# Altium footprint library Connector_FFC-FPC.PcbLib: 184 footprints (part 1 of 12)
Each footprint in its own frame and in the unit in brackets; x right, y up, seen from the top. Pads: shape width x height; smd on the part's side, far side on the other; paste and mask are expansions set on the pad; w line width, h text height; cw(c..) or ccw(c..) is an arc to the next point about the centre after c.
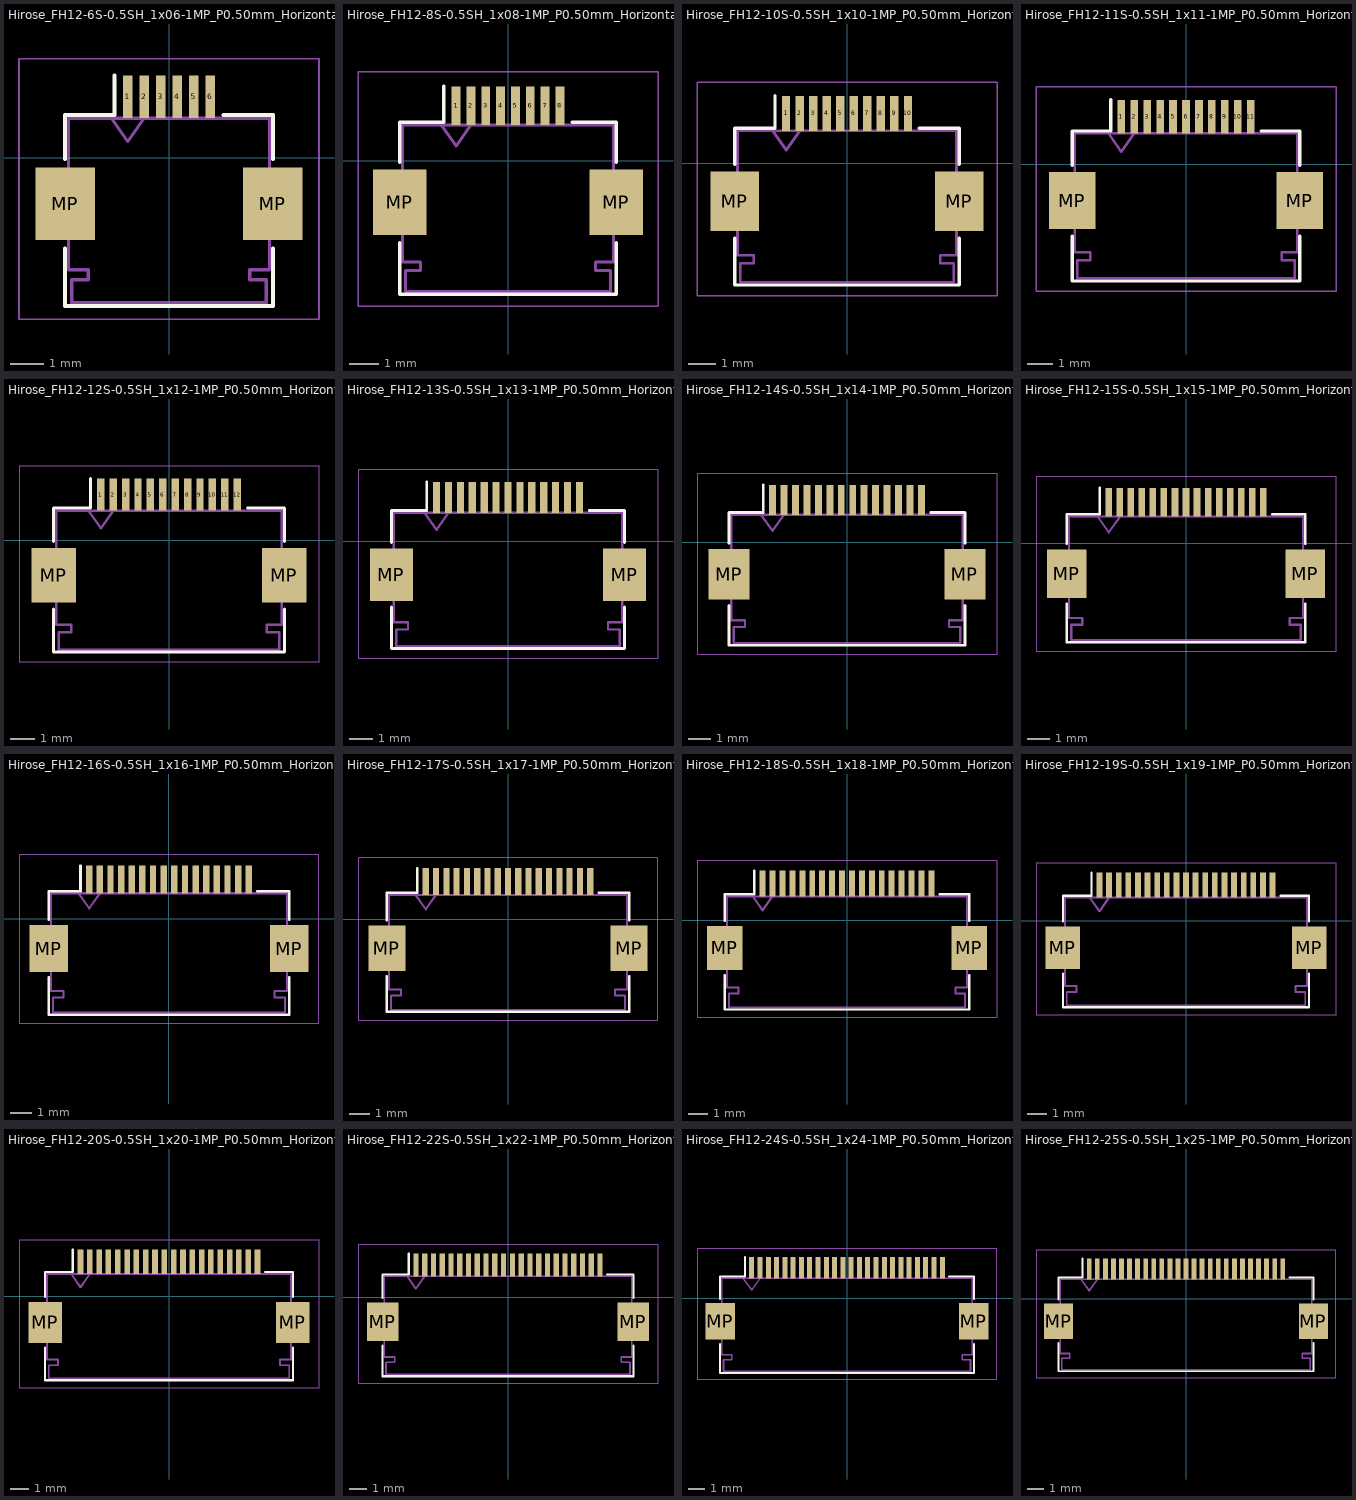
[diagram p0: the footprints below, top view; thin cyan lines are the x and y axes]

## Hirose_FH12-6S-0.5SH_1x06-1MP_P0.50mm_Horizontal [mm]
pads (8):
  rect 0.3x1.3 smd: 1(-1.25,1.85) 2(-0.75,1.85) 3(-0.25,1.85) 4(0.25,1.85) 5(0.75,1.85) 6(1.25,1.85)
  rect 1.8x2.2 smd: MP(-3.15,-1.4) MP(3.15,-1.4)
F.SilkS:
  lines w0.12: -3.15,-2.76 -3.15,-4.5 3.15,-4.5 3.15,-2.76 ; -3.15,-0.04 -3.15,1.3 -1.66,1.3 -1.66,2.5 ; 1.66,1.3 3.15,1.3 3.15,-0.04
F.CrtYd:
  lines w0.05: -4.55,-4.9 -4.55,3 4.55,3 4.55,-4.9 -4.55,-4.9
F.Fab:
  lines w0.1: -1.75,1.2 -1.25,0.493 -0.75,1.2 ; -3.05,-3.4 -2.45,-3.4 -2.45,-3.7 -2.95,-3.7 -2.95,-4.4 0,-4.4 2.95,-4.4 2.95,-3.7 2.45,-3.7 2.45,-3.4 3.05,-3.4 3.05,1.2 0,1.2 -3.05,1.2 -3.05,-3.4
  text "'.Designator'" at -4.047,-4.54 h1

## Hirose_FH12-8S-0.5SH_1x08-1MP_P0.50mm_Horizontal [mm]
pads (10):
  rect 0.3x1.3 smd: 1(-1.75,1.85) 2(-1.25,1.85) 3(-0.75,1.85) 4(-0.25,1.85) 5(0.25,1.85) 6(0.75,1.85) 7(1.25,1.85) 8(1.75,1.85)
  rect 1.8x2.2 smd: MP(-3.65,-1.4) MP(3.65,-1.4)
F.SilkS:
  lines w0.12: -3.65,-2.76 -3.65,-4.5 3.65,-4.5 3.65,-2.76 ; -3.65,-0.04 -3.65,1.3 -2.16,1.3 -2.16,2.5 ; 2.16,1.3 3.65,1.3 3.65,-0.04
F.CrtYd:
  lines w0.05: -5.05,-4.9 -5.05,3 5.05,3 5.05,-4.9 -5.05,-4.9
F.Fab:
  lines w0.1: -2.25,1.2 -1.75,0.493 -1.25,1.2 ; -3.55,-3.4 -2.95,-3.4 -2.95,-3.7 -3.45,-3.7 -3.45,-4.4 0,-4.4 3.45,-4.4 3.45,-3.7 2.95,-3.7 2.95,-3.4 3.55,-3.4 3.55,1.2 0,1.2 -3.55,1.2 -3.55,-3.4
  text "'.Designator'" at -4.047,-4.54 h1

## Hirose_FH12-10S-0.5SH_1x10-1MP_P0.50mm_Horizontal [mm]
pads (12):
  rect 0.3x1.3 smd: 1(-2.25,1.85) 2(-1.75,1.85) 3(-1.25,1.85) 4(-0.75,1.85) 5(-0.25,1.85) 6(0.25,1.85) 7(0.75,1.85) 8(1.25,1.85) 9(1.75,1.85) 10(2.25,1.85)
  rect 1.8x2.2 smd: MP(-4.15,-1.4) MP(4.15,-1.4)
F.SilkS:
  lines w0.12: -4.15,-2.76 -4.15,-4.5 4.15,-4.5 4.15,-2.76 ; -4.15,-0.04 -4.15,1.3 -2.66,1.3 -2.66,2.5 ; 2.66,1.3 4.15,1.3 4.15,-0.04
F.CrtYd:
  lines w0.05: -5.55,-4.9 -5.55,3 5.55,3 5.55,-4.9 -5.55,-4.9
F.Fab:
  lines w0.1: -2.75,1.2 -2.25,0.493 -1.75,1.2 ; -4.05,-3.4 -3.45,-3.4 -3.45,-3.7 -3.95,-3.7 -3.95,-4.4 0,-4.4 3.95,-4.4 3.95,-3.7 3.45,-3.7 3.45,-3.4 4.05,-3.4 4.05,1.2 0,1.2 -4.05,1.2 -4.05,-3.4
  text "'.Designator'" at -4.047,-4.54 h1

## Hirose_FH12-11S-0.5SH_1x11-1MP_P0.50mm_Horizontal [mm]
pads (13):
  rect 0.3x1.3 smd: 1(-2.5,1.85) 2(-2,1.85) 3(-1.5,1.85) 4(-1,1.85) 5(-0.5,1.85) 6(0,1.85) 7(0.5,1.85) 8(1,1.85) 9(1.5,1.85) 10(2,1.85) 11(2.5,1.85)
  rect 1.8x2.2 smd: MP(-4.4,-1.4) MP(4.4,-1.4)
F.SilkS:
  lines w0.12: -4.4,-2.76 -4.4,-4.5 4.4,-4.5 4.4,-2.76 ; -4.4,-0.04 -4.4,1.3 -2.91,1.3 -2.91,2.5 ; 2.91,1.3 4.4,1.3 4.4,-0.04
F.CrtYd:
  lines w0.05: -5.8,-4.9 5.8,-4.9 5.8,3 -5.8,3 -5.8,-4.9
F.Fab:
  lines w0.1: -3,1.2 -2.5,0.493 -2,1.2 ; -4.3,-3.4 -4.3,1.2 0,1.2 4.3,1.2 4.3,-3.4 3.7,-3.4 3.7,-3.7 4.2,-3.7 4.2,-4.4 0,-4.4 -4.2,-4.4 -4.2,-3.7 -3.7,-3.7 -3.7,-3.4 -4.3,-3.4
  text "'.Designator'" at -4.047,-4.54 h1

## Hirose_FH12-12S-0.5SH_1x12-1MP_P0.50mm_Horizontal [mm]
pads (14):
  rect 0.3x1.3 smd: 1(-2.75,1.85) 2(-2.25,1.85) 3(-1.75,1.85) 4(-1.25,1.85) 5(-0.75,1.85) 6(-0.25,1.85) 7(0.25,1.85) 8(0.75,1.85) 9(1.25,1.85) 10(1.75,1.85) 11(2.25,1.85) 12(2.75,1.85)
  rect 1.8x2.2 smd: MP(-4.65,-1.4) MP(4.65,-1.4)
F.SilkS:
  lines w0.12: -4.65,-2.76 -4.65,-4.5 4.65,-4.5 4.65,-2.76 ; -4.65,-0.04 -4.65,1.3 -3.16,1.3 -3.16,2.5 ; 3.16,1.3 4.65,1.3 4.65,-0.04
F.CrtYd:
  lines w0.05: -6.05,-4.9 6.05,-4.9 6.05,3 -6.05,3 -6.05,-4.9
F.Fab:
  lines w0.1: -3.25,1.2 -2.75,0.493 -2.25,1.2 ; -4.55,-3.4 -3.95,-3.4 -3.95,-3.7 -4.45,-3.7 -4.45,-4.4 0,-4.4 4.45,-4.4 4.45,-3.7 3.95,-3.7 3.95,-3.4 4.55,-3.4 4.55,1.2 0,1.2 -4.55,1.2 -4.55,-3.4
  text "'.Designator'" at -4.047,-4.54 h1

## Hirose_FH12-13S-0.5SH_1x13-1MP_P0.50mm_Horizontal [mm]
pads (15):
  rect 0.3x1.3 smd: 1(-3,1.85) 2(-2.5,1.85) 3(-2,1.85) 4(-1.5,1.85) 5(-1,1.85) 6(-0.5,1.85) 7(0,1.85) 8(0.5,1.85) 9(1,1.85) 10(1.5,1.85) 11(2,1.85) 12(2.5,1.85) 13(3,1.85)
  rect 1.8x2.2 smd: MP(-4.9,-1.4) MP(4.9,-1.4)
F.SilkS:
  lines w0.12: -4.9,-2.76 -4.9,-4.5 4.9,-4.5 4.9,-2.76 ; -4.9,-0.04 -4.9,1.3 -3.41,1.3 -3.41,2.5 ; 3.41,1.3 4.9,1.3 4.9,-0.04
F.CrtYd:
  lines w0.05: -6.3,-4.9 6.3,-4.9 6.3,3 -6.3,3 -6.3,-4.9
F.Fab:
  lines w0.1: -3.5,1.2 -3,0.493 -2.5,1.2 ; -4.8,-3.4 -4.8,1.2 0,1.2 4.8,1.2 4.8,-3.4 4.2,-3.4 4.2,-3.7 4.7,-3.7 4.7,-4.4 0,-4.4 -4.7,-4.4 -4.7,-3.7 -4.2,-3.7 -4.2,-3.4 -4.8,-3.4
  text "'.Designator'" at -4.047,-4.54 h1

## Hirose_FH12-14S-0.5SH_1x14-1MP_P0.50mm_Horizontal [mm]
pads (16):
  rect 0.3x1.3 smd: 1(-3.25,1.85) 2(-2.75,1.85) 3(-2.25,1.85) 4(-1.75,1.85) 5(-1.25,1.85) 6(-0.75,1.85) 7(-0.25,1.85) 8(0.25,1.85) 9(0.75,1.85) 10(1.25,1.85) 11(1.75,1.85) 12(2.25,1.85) 13(2.75,1.85) 14(3.25,1.85)
  rect 1.8x2.2 smd: MP(-5.15,-1.4) MP(5.15,-1.4)
F.SilkS:
  lines w0.12: -5.15,-2.76 -5.15,-4.5 5.15,-4.5 5.15,-2.76 ; -5.15,-0.04 -5.15,1.3 -3.66,1.3 -3.66,2.5 ; 3.66,1.3 5.15,1.3 5.15,-0.04
F.CrtYd:
  lines w0.05: -6.55,-4.9 -6.55,3 6.55,3 6.55,-4.9 -6.55,-4.9
F.Fab:
  lines w0.1: -3.75,1.2 -3.25,0.493 -2.75,1.2 ; -5.05,-3.4 -5.05,1.2 0,1.2 5.05,1.2 5.05,-3.4 4.45,-3.4 4.45,-3.7 4.95,-3.7 4.95,-4.4 0,-4.4 -4.95,-4.4 -4.95,-3.7 -4.45,-3.7 -4.45,-3.4 -5.05,-3.4
  text "'.Designator'" at -4.047,-4.54 h1

## Hirose_FH12-15S-0.5SH_1x15-1MP_P0.50mm_Horizontal [mm]
pads (17):
  rect 0.3x1.3 smd: 1(-3.5,1.85) 2(-3,1.85) 3(-2.5,1.85) 4(-2,1.85) 5(-1.5,1.85) 6(-1,1.85) 7(-0.5,1.85) 8(0,1.85) 9(0.5,1.85) 10(1,1.85) 11(1.5,1.85) 12(2,1.85) 13(2.5,1.85) 14(3,1.85) 15(3.5,1.85)
  rect 1.8x2.2 smd: MP(-5.4,-1.4) MP(5.4,-1.4)
F.SilkS:
  lines w0.12: -5.4,-2.76 -5.4,-4.5 5.4,-4.5 5.4,-2.76 ; -5.4,-0.04 -5.4,1.3 -3.91,1.3 -3.91,2.5 ; 3.91,1.3 5.4,1.3 5.4,-0.04
F.CrtYd:
  lines w0.05: -6.8,-4.9 6.8,-4.9 6.8,3 -6.8,3 -6.8,-4.9
F.Fab:
  lines w0.1: -4,1.2 -3.5,0.493 -3,1.2 ; -5.3,-3.4 -4.7,-3.4 -4.7,-3.7 -5.2,-3.7 -5.2,-4.4 0,-4.4 5.2,-4.4 5.2,-3.7 4.7,-3.7 4.7,-3.4 5.3,-3.4 5.3,1.2 0,1.2 -5.3,1.2 -5.3,-3.4
  text "'.Designator'" at -4.047,-4.54 h1

## Hirose_FH12-16S-0.5SH_1x16-1MP_P0.50mm_Horizontal [mm]
pads (18):
  rect 0.3x1.3 smd: 1(-3.75,1.85) 2(-3.25,1.85) 3(-2.75,1.85) 4(-2.25,1.85) 5(-1.75,1.85) 6(-1.25,1.85) 7(-0.75,1.85) 8(-0.25,1.85) 9(0.25,1.85) 10(0.75,1.85) 11(1.25,1.85) 12(1.75,1.85) 13(2.25,1.85) 14(2.75,1.85) 15(3.25,1.85) 16(3.75,1.85)
  rect 1.8x2.2 smd: MP(-5.65,-1.4) MP(5.65,-1.4)
F.SilkS:
  lines w0.12: -5.65,-2.76 -5.65,-4.5 5.65,-4.5 5.65,-2.76 ; -5.65,-0.04 -5.65,1.3 -4.16,1.3 -4.16,2.5 ; 4.16,1.3 5.65,1.3 5.65,-0.04
F.CrtYd:
  lines w0.05: -7.05,-4.9 -7.05,3 7.05,3 7.05,-4.9 -7.05,-4.9
F.Fab:
  lines w0.1: -4.25,1.2 -3.75,0.493 -3.25,1.2 ; -5.55,-3.4 -5.55,1.2 0,1.2 5.55,1.2 5.55,-3.4 4.95,-3.4 4.95,-3.7 5.45,-3.7 5.45,-4.4 0,-4.4 -5.45,-4.4 -5.45,-3.7 -4.95,-3.7 -4.95,-3.4 -5.55,-3.4
  text "'.Designator'" at -4.047,-4.54 h1

## Hirose_FH12-17S-0.5SH_1x17-1MP_P0.50mm_Horizontal [mm]
pads (19):
  rect 0.3x1.3 smd: 1(-4,1.85) 2(-3.5,1.85) 3(-3,1.85) 4(-2.5,1.85) 5(-2,1.85) 6(-1.5,1.85) 7(-1,1.85) 8(-0.5,1.85) 9(0,1.85) 10(0.5,1.85) 11(1,1.85) 12(1.5,1.85) 13(2,1.85) 14(2.5,1.85) 15(3,1.85) 16(3.5,1.85) 17(4,1.85)
  rect 1.8x2.2 smd: MP(-5.9,-1.4) MP(5.9,-1.4)
F.SilkS:
  lines w0.12: -5.9,-2.76 -5.9,-4.5 5.9,-4.5 5.9,-2.76 ; -5.9,-0.04 -5.9,1.3 -4.41,1.3 -4.41,2.5 ; 4.41,1.3 5.9,1.3 5.9,-0.04
F.CrtYd:
  lines w0.05: -7.3,-4.9 7.3,-4.9 7.3,3 -7.3,3 -7.3,-4.9
F.Fab:
  lines w0.1: -4.5,1.2 -4,0.493 -3.5,1.2 ; -5.8,-3.4 -5.8,1.2 0,1.2 5.8,1.2 5.8,-3.4 5.2,-3.4 5.2,-3.7 5.7,-3.7 5.7,-4.4 0,-4.4 -5.7,-4.4 -5.7,-3.7 -5.2,-3.7 -5.2,-3.4 -5.8,-3.4
  text "'.Designator'" at -4.047,-4.54 h1

## Hirose_FH12-18S-0.5SH_1x18-1MP_P0.50mm_Horizontal [mm]
pads (20):
  rect 0.3x1.3 smd: 1(-4.25,1.85) 2(-3.75,1.85) 3(-3.25,1.85) 4(-2.75,1.85) 5(-2.25,1.85) 6(-1.75,1.85) 7(-1.25,1.85) 8(-0.75,1.85) 9(-0.25,1.85) 10(0.25,1.85) 11(0.75,1.85) 12(1.25,1.85) 13(1.75,1.85) 14(2.25,1.85) 15(2.75,1.85) 16(3.25,1.85) 17(3.75,1.85) 18(4.25,1.85)
  rect 1.8x2.2 smd: MP(-6.15,-1.4) MP(6.15,-1.4)
F.SilkS:
  lines w0.12: -6.15,-2.76 -6.15,-4.5 6.15,-4.5 6.15,-2.76 ; -6.15,-0.04 -6.15,1.3 -4.66,1.3 -4.66,2.5 ; 4.66,1.3 6.15,1.3 6.15,-0.04
F.CrtYd:
  lines w0.05: -7.55,-4.9 7.55,-4.9 7.55,3 -7.55,3 -7.55,-4.9
F.Fab:
  lines w0.1: -4.75,1.2 -4.25,0.493 -3.75,1.2 ; -6.05,-3.4 -5.45,-3.4 -5.45,-3.7 -5.95,-3.7 -5.95,-4.4 0,-4.4 5.95,-4.4 5.95,-3.7 5.45,-3.7 5.45,-3.4 6.05,-3.4 6.05,1.2 0,1.2 -6.05,1.2 -6.05,-3.4
  text "'.Designator'" at -4.047,-4.54 h1

## Hirose_FH12-19S-0.5SH_1x19-1MP_P0.50mm_Horizontal [mm]
pads (21):
  rect 0.3x1.3 smd: 1(-4.5,1.85) 2(-4,1.85) 3(-3.5,1.85) 4(-3,1.85) 5(-2.5,1.85) 6(-2,1.85) 7(-1.5,1.85) 8(-1,1.85) 9(-0.5,1.85) 10(0,1.85) 11(0.5,1.85) 12(1,1.85) 13(1.5,1.85) 14(2,1.85) 15(2.5,1.85) 16(3,1.85) 17(3.5,1.85) 18(4,1.85) 19(4.5,1.85)
  rect 1.8x2.2 smd: MP(-6.4,-1.4) MP(6.4,-1.4)
F.SilkS:
  lines w0.12: -6.4,-2.76 -6.4,-4.5 6.4,-4.5 6.4,-2.76 ; -6.4,-0.04 -6.4,1.3 -4.91,1.3 -4.91,2.5 ; 4.91,1.3 6.4,1.3 6.4,-0.04
F.CrtYd:
  lines w0.05: -7.8,-4.9 7.8,-4.9 7.8,3 -7.8,3 -7.8,-4.9
F.Fab:
  lines w0.1: -5,1.2 -4.5,0.493 -4,1.2 ; -6.3,-3.4 -5.7,-3.4 -5.7,-3.7 -6.2,-3.7 -6.2,-4.4 0,-4.4 6.2,-4.4 6.2,-3.7 5.7,-3.7 5.7,-3.4 6.3,-3.4 6.3,1.2 0,1.2 -6.3,1.2 -6.3,-3.4
  text "'.Designator'" at -4.047,-4.54 h1

## Hirose_FH12-20S-0.5SH_1x20-1MP_P0.50mm_Horizontal [mm]
pads (22):
  rect 0.3x1.3 smd: 1(-4.75,1.85) 2(-4.25,1.85) 3(-3.75,1.85) 4(-3.25,1.85) 5(-2.75,1.85) 6(-2.25,1.85) 7(-1.75,1.85) 8(-1.25,1.85) 9(-0.75,1.85) 10(-0.25,1.85) 11(0.25,1.85) 12(0.75,1.85) 13(1.25,1.85) 14(1.75,1.85) 15(2.25,1.85) 16(2.75,1.85) 17(3.25,1.85) 18(3.75,1.85) 19(4.25,1.85) 20(4.75,1.85)
  rect 1.8x2.2 smd: MP(-6.65,-1.4) MP(6.65,-1.4)
F.SilkS:
  lines w0.12: -6.65,-2.76 -6.65,-4.5 6.65,-4.5 6.65,-2.76 ; -6.65,-0.04 -6.65,1.3 -5.16,1.3 -5.16,2.5 ; 5.16,1.3 6.65,1.3 6.65,-0.04
F.CrtYd:
  lines w0.05: -8.05,-4.9 -8.05,3 8.05,3 8.05,-4.9 -8.05,-4.9
F.Fab:
  lines w0.1: -5.25,1.2 -4.75,0.493 -4.25,1.2 ; -6.55,-3.4 -5.95,-3.4 -5.95,-3.7 -6.45,-3.7 -6.45,-4.4 0,-4.4 6.45,-4.4 6.45,-3.7 5.95,-3.7 5.95,-3.4 6.55,-3.4 6.55,1.2 0,1.2 -6.55,1.2 -6.55,-3.4
  text "'.Designator'" at -4.047,-4.54 h1

## Hirose_FH12-22S-0.5SH_1x22-1MP_P0.50mm_Horizontal [mm]
pads (24):
  rect 0.3x1.3 smd: 1(-5.25,1.85) 2(-4.75,1.85) 3(-4.25,1.85) 4(-3.75,1.85) 5(-3.25,1.85) 6(-2.75,1.85) 7(-2.25,1.85) 8(-1.75,1.85) 9(-1.25,1.85) 10(-0.75,1.85) 11(-0.25,1.85) 12(0.25,1.85) 13(0.75,1.85) 14(1.25,1.85) 15(1.75,1.85) 16(2.25,1.85) 17(2.75,1.85) 18(3.25,1.85) 19(3.75,1.85) 20(4.25,1.85) 21(4.75,1.85) 22(5.25,1.85)
  rect 1.8x2.2 smd: MP(-7.15,-1.4) MP(7.15,-1.4)
F.SilkS:
  lines w0.12: -7.15,-2.76 -7.15,-4.5 7.15,-4.5 7.15,-2.76 ; -7.15,-0.04 -7.15,1.3 -5.66,1.3 -5.66,2.5 ; 5.66,1.3 7.15,1.3 7.15,-0.04
F.CrtYd:
  lines w0.05: -8.55,-4.9 -8.55,3 8.55,3 8.55,-4.9 -8.55,-4.9
F.Fab:
  lines w0.1: -5.75,1.2 -5.25,0.493 -4.75,1.2 ; -7.05,-3.4 -6.45,-3.4 -6.45,-3.7 -6.95,-3.7 -6.95,-4.4 0,-4.4 6.95,-4.4 6.95,-3.7 6.45,-3.7 6.45,-3.4 7.05,-3.4 7.05,1.2 0,1.2 -7.05,1.2 -7.05,-3.4
  text "'.Designator'" at -4.047,-4.54 h1

## Hirose_FH12-24S-0.5SH_1x24-1MP_P0.50mm_Horizontal [mm]
pads (26):
  rect 0.3x1.3 smd: 1(-5.75,1.85) 2(-5.25,1.85) 3(-4.75,1.85) 4(-4.25,1.85) 5(-3.75,1.85) 6(-3.25,1.85) 7(-2.75,1.85) 8(-2.25,1.85) 9(-1.75,1.85) 10(-1.25,1.85) 11(-0.75,1.85) 12(-0.25,1.85) 13(0.25,1.85) 14(0.75,1.85) 15(1.25,1.85) 16(1.75,1.85) 17(2.25,1.85) 18(2.75,1.85) 19(3.25,1.85) 20(3.75,1.85) 21(4.25,1.85) 22(4.75,1.85) 23(5.25,1.85) 24(5.75,1.85)
  rect 1.8x2.2 smd: MP(-7.65,-1.4) MP(7.65,-1.4)
F.SilkS:
  lines w0.12: -7.65,-2.76 -7.65,-4.5 7.65,-4.5 7.65,-2.76 ; -7.65,-0.04 -7.65,1.3 -6.16,1.3 -6.16,2.5 ; 6.16,1.3 7.65,1.3 7.65,-0.04
F.CrtYd:
  lines w0.05: -9.05,-4.9 9.05,-4.9 9.05,3 -9.05,3 -9.05,-4.9
F.Fab:
  lines w0.1: -6.25,1.2 -5.75,0.493 -5.25,1.2 ; -7.55,-3.4 -6.95,-3.4 -6.95,-3.7 -7.45,-3.7 -7.45,-4.4 0,-4.4 7.45,-4.4 7.45,-3.7 6.95,-3.7 6.95,-3.4 7.55,-3.4 7.55,1.2 0,1.2 -7.55,1.2 -7.55,-3.4
  text "'.Designator'" at -4.047,-4.54 h1

## Hirose_FH12-25S-0.5SH_1x25-1MP_P0.50mm_Horizontal [mm]
pads (27):
  rect 0.3x1.3 smd: 1(-6,1.85) 2(-5.5,1.85) 3(-5,1.85) 4(-4.5,1.85) 5(-4,1.85) 6(-3.5,1.85) 7(-3,1.85) 8(-2.5,1.85) 9(-2,1.85) 10(-1.5,1.85) 11(-1,1.85) 12(-0.5,1.85) 13(0,1.85) 14(0.5,1.85) 15(1,1.85) 16(1.5,1.85) 17(2,1.85) 18(2.5,1.85) 19(3,1.85) 20(3.5,1.85) 21(4,1.85) 22(4.5,1.85) 23(5,1.85) 24(5.5,1.85) 25(6,1.85)
  rect 1.8x2.2 smd: MP(-7.9,-1.4) MP(7.9,-1.4)
F.SilkS:
  lines w0.12: -7.9,-2.76 -7.9,-4.5 7.9,-4.5 7.9,-2.76 ; -7.9,-0.04 -7.9,1.3 -6.41,1.3 -6.41,2.5 ; 6.41,1.3 7.9,1.3 7.9,-0.04
F.CrtYd:
  lines w0.05: -9.3,-4.9 9.3,-4.9 9.3,3 -9.3,3 -9.3,-4.9
F.Fab:
  lines w0.1: -6.5,1.2 -6,0.493 -5.5,1.2 ; -7.8,-3.4 -7.8,1.2 0,1.2 7.8,1.2 7.8,-3.4 7.2,-3.4 7.2,-3.7 7.7,-3.7 7.7,-4.4 0,-4.4 -7.7,-4.4 -7.7,-3.7 -7.2,-3.7 -7.2,-3.4 -7.8,-3.4
  text "'.Designator'" at -4.047,-4.54 h1